# EAGLE library part HEADER_1X6_FTDI (library pixhawk2)
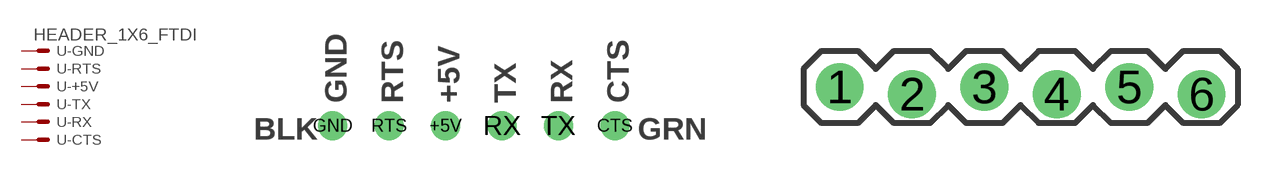
[diagram p46: symbol with the pads of HEADER_1X06-FTDI; footprints HEADER_1X06-FTDI, HEADER_1X06-SIP_LOCK]

Designator prefix -; gates -GND=MV -RTS=M -+5V=M -TX=M -RX=M -CTS=M

## HEADER_1X6_FTDILABELED  [HEADER_1X06-FTDI]
+5V  -+5V:S  pas
CTS  -CTS:S  pas
GND  -GND:S  pas
RTS  -RTS:S  pas
RX  -RX:S  pas
TX  -TX:S  pas

## HEADER_1X6_FTDI  [HEADER_1X06-SIP_LOCK]
1  -GND:S  pas
2  -RTS:S  pas
3  -+5V:S  pas
4  -RX:S  pas
5  -TX:S  pas
6  -CTS:S  pas

## Footprint HEADER_1X06-FTDI (pad centres in mm)
drill 0.8: +5V -1.27,0; CTS 6.35,0; GND -6.35,0; RTS -3.81,0; RX 1.27,0; TX 3.81,0

## Footprint HEADER_1X06-SIP_LOCK (pad centres in mm)
This footprint was designed to help hold the alignment of a through-hole component (i.e. 6-pin header) while soldering it into place. You may notice that each hole has been shifted either up or down by 0.005 of an inch from it's more standard position (which is a perfectly straight line). This slight alteration caused the pins (the squares in the middle) to touch the edges of the holes. Because they are alternating, it causes a "brace" to hold the component in place. 0.005 has proven to be the perfect amount of "off-center" position when using our standard breakaway headers. Although looks a little odd when you look at the bare footprint, once you have a header in there, the alteration is very hard to notice. Also, if you push a header all the way into place, it is covered up entirely on the bottom side. This idea of altering the position of holes to aid alignment will be further integrated into the Sparkfun Library for other footprints. It can help hold any component with 3 or more connection pins.
drill 1.016 pad 1.676: 1 0,0; 2 2.54,-0.254; 3 5.08,0; 4 7.62,-0.254; 5 10.16,0; 6 12.7,-0.254